# EAGLE library part ADA4938-1 (library analog-devices)
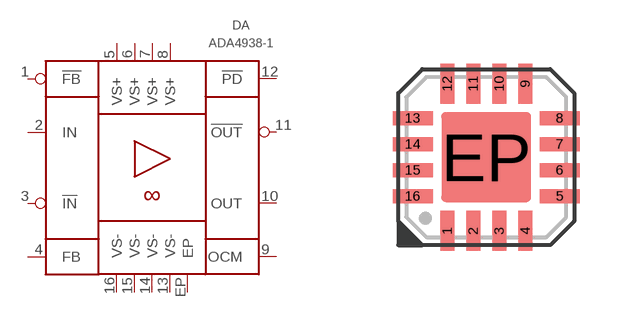
[diagram p15: symbol with the pads of LFCSP-16; footprint LFCSP-16]

Designator prefix DA

## ADA4938-1ACPZ-R2  [LFCSP-16]
1  !FB  in
2  IN  in
3  !IN  in
4  FB  in
5  VS+  pwr
6  VS+  pwr
7  VS+  pwr
8  VS+  pwr
9  OCM  pas
10  OUT  out
11  !OUT  out
12  !PD  in
13  VS-  pwr
14  VS-  pwr
15  VS-  pwr
16  VS-  pwr
EP  EP  pwr

## ADA4938-1ACPZ-RL  [LFCSP-16]
Pads as for LFCSP-16

## ADA4938-1ACPZ-R7  [LFCSP-16]
Pads as for LFCSP-16

## Footprint LFCSP-16 (pad centres in mm)
smd 0.35 x 1: 1 -0.975,-1.84; 2 -0.325,-1.84; 3 0.325,-1.84; 4 0.975,-1.84; 9 0.975,1.84; 10 0.325,1.84; 11 -0.325,1.84; 12 -0.975,1.84
smd 1 x 0.35: 5 1.84,-0.975; 6 1.84,-0.325; 7 1.84,0.325; 8 1.84,0.975; 13 -1.84,0.975; 14 -1.84,0.325; 15 -1.84,-0.325; 16 -1.84,-0.975
smd 2.25 x 2.25: EP 0,0